# EAGLE library part BQ24123 (library texas)
SINGLE-CHIP SWITCHMODE, LI-ION AND LI-POLYMER CHARGE-MANAGEMENT IC WITH ENHANCED EMI PERFORMANCE(bqSWITCHER) Source: www.ti.com .. TI-bq24125.pdf
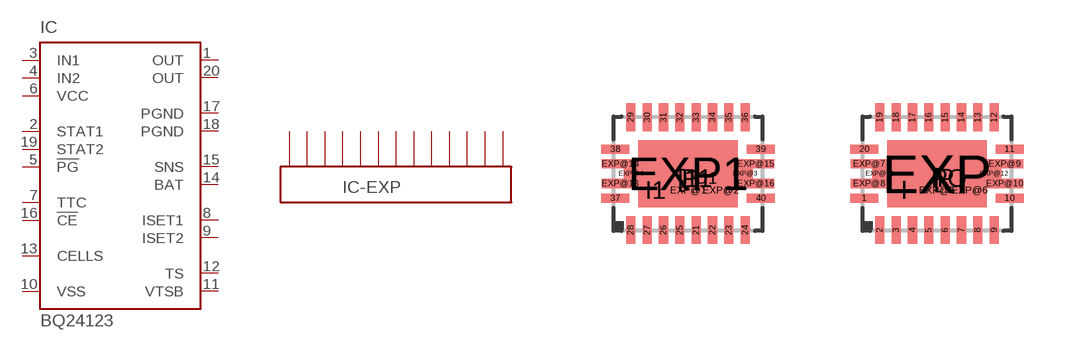
[diagram p46: symbol with the pads of QFN20_3,5X4,5; footprint QFN20_3,5X4,5]

Designator prefix IC; gates G$1=BQ24123 -EXP=EXP

## BQ24123  [QFN20_3,5X4,5]
1  G$1:OUT  out
2  G$1:STAT1  out
3  G$1:IN1  in
4  G$1:IN2  in
5  G$1:!PG  out
6  G$1:VCC  in
7  G$1:TTC  pas
8  G$1:ISET1
9  G$1:ISET2
10  G$1:VSS  pwr
11  G$1:VTSB  out
12  G$1:TS  in
13  G$1:CELLS  in
14  G$1:BAT  in
15  G$1:SNS  in
16  G$1:!CE  in
17  G$1:PGND  in
18  G$1:PGND  in
19  G$1:STAT2  out
20  G$1:OUT  in
[  -EXP:2  in
EXP  -EXP:7  in
EXP@5  -EXP:5  in
EXP@6  -EXP:6  in
EXP@7  -EXP:8  in
EXP@8  -EXP:9  in
EXP@9  -EXP:10  in
EXP@10  -EXP:11  in
EXP@11  -EXP:12  in
EXP@12  -EXP:13  in
I  -EXP:4  in
P  -EXP:1  in
PO  -EXP:3  in

## Footprint QFN20_3,5X4,5 (pad centres in mm)
RHL (R-PQFP-N20) Set in DRC - Same Signals - SMD to SMD and SMD to PAD = 0. Source: www.ti.com .. TI-bq24125.pdf
smd 0.85 x 0.28: 1 -2.225,-0.75; 10 2.225,-0.75; 11 2.225,0.75; 20 -2.225,0.75; 37 -9.845,-0.75; 38 -9.845,0.75; 39 -5.395,0.75; 40 -5.395,-0.75
smd 0.28 x 0.85: 2 -1.75,-1.725; 3 -1.25,-1.725; 4 -0.75,-1.725; 5 -0.25,-1.725; 6 0.25,-1.725; 7 0.75,-1.725; 8 1.25,-1.725; 9 1.75,-1.725; 12 1.75,1.725; 13 1.25,1.725; 14 0.75,1.725; 15 0.25,1.725; 16 -0.25,1.725; 17 -0.75,1.725; 18 -1.25,1.725; 19 -1.75,1.725; 21 -7.37,-1.725; 22 -6.87,-1.725; 23 -6.37,-1.725; 24 -5.87,-1.725; 25 -7.87,-1.725; 26 -8.37,-1.725; 27 -8.87,-1.725; 28 -9.37,-1.725; 29 -9.37,1.725; 30 -8.87,1.725; 31 -8.37,1.725; 32 -7.87,1.725; 33 -7.37,1.725; 34 -6.87,1.725; 35 -6.37,1.725; 36 -5.87,1.725
drill 0.3 pad 0.7: [ 0,-0.135; [1 -7.62,-0.135; EXP@1 -7.62,-0.5; EXP@2 -6.62,-0.5; EXP@5 0,-0.5; EXP@6 1,-0.5; I -1,-0.5; I1 -8.62,-0.5; P 0.27,-0.135; P1 -7.35,-0.135; PO 0.365,-0.135; PO1 -7.255,-0.135
smd 3.05 x 2.05: EXP 0,0; EXP1 -7.62,0
smd 0.45 x 0.4: EXP@3 -5.87,0; EXP@4 -9.37,0; EXP@11 -1.75,0; EXP@12 1.75,0
smd 1.125 x 0.28: EXP@7 -2.075,0.3; EXP@8 -2.075,-0.3; EXP@9 2.075,0.3; EXP@10 2.075,-0.3; EXP@13 -9.695,-0.3; EXP@14 -9.695,0.3; EXP@15 -5.545,0.3; EXP@16 -5.545,-0.3